# Altium integrated library MP2315.IntLib: 1 symbol
Pins are listed as number, name and electrical type; pins without a type are passive.

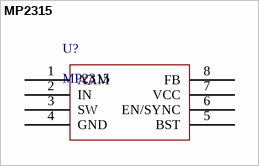
[diagram p0: symbol MP2315]

## MP2315
designator U?
footprint MP2315(TSOP65P280X100-8N) (TSOP, 8-Leads, Body 3.0x1.7mm (max), Pitch 0.65mm, IPC Medium Density)
pins: 1 AAM, 2 IN, 3 SW, 4 GND, 5 BST, 6 EN/SYNC, 7 VCC, 8 FB